# Altium schematic symbol library Motor Controller.SchLib: 22 symbols
Pins are listed as number, name and electrical type; pins without a type are passive.

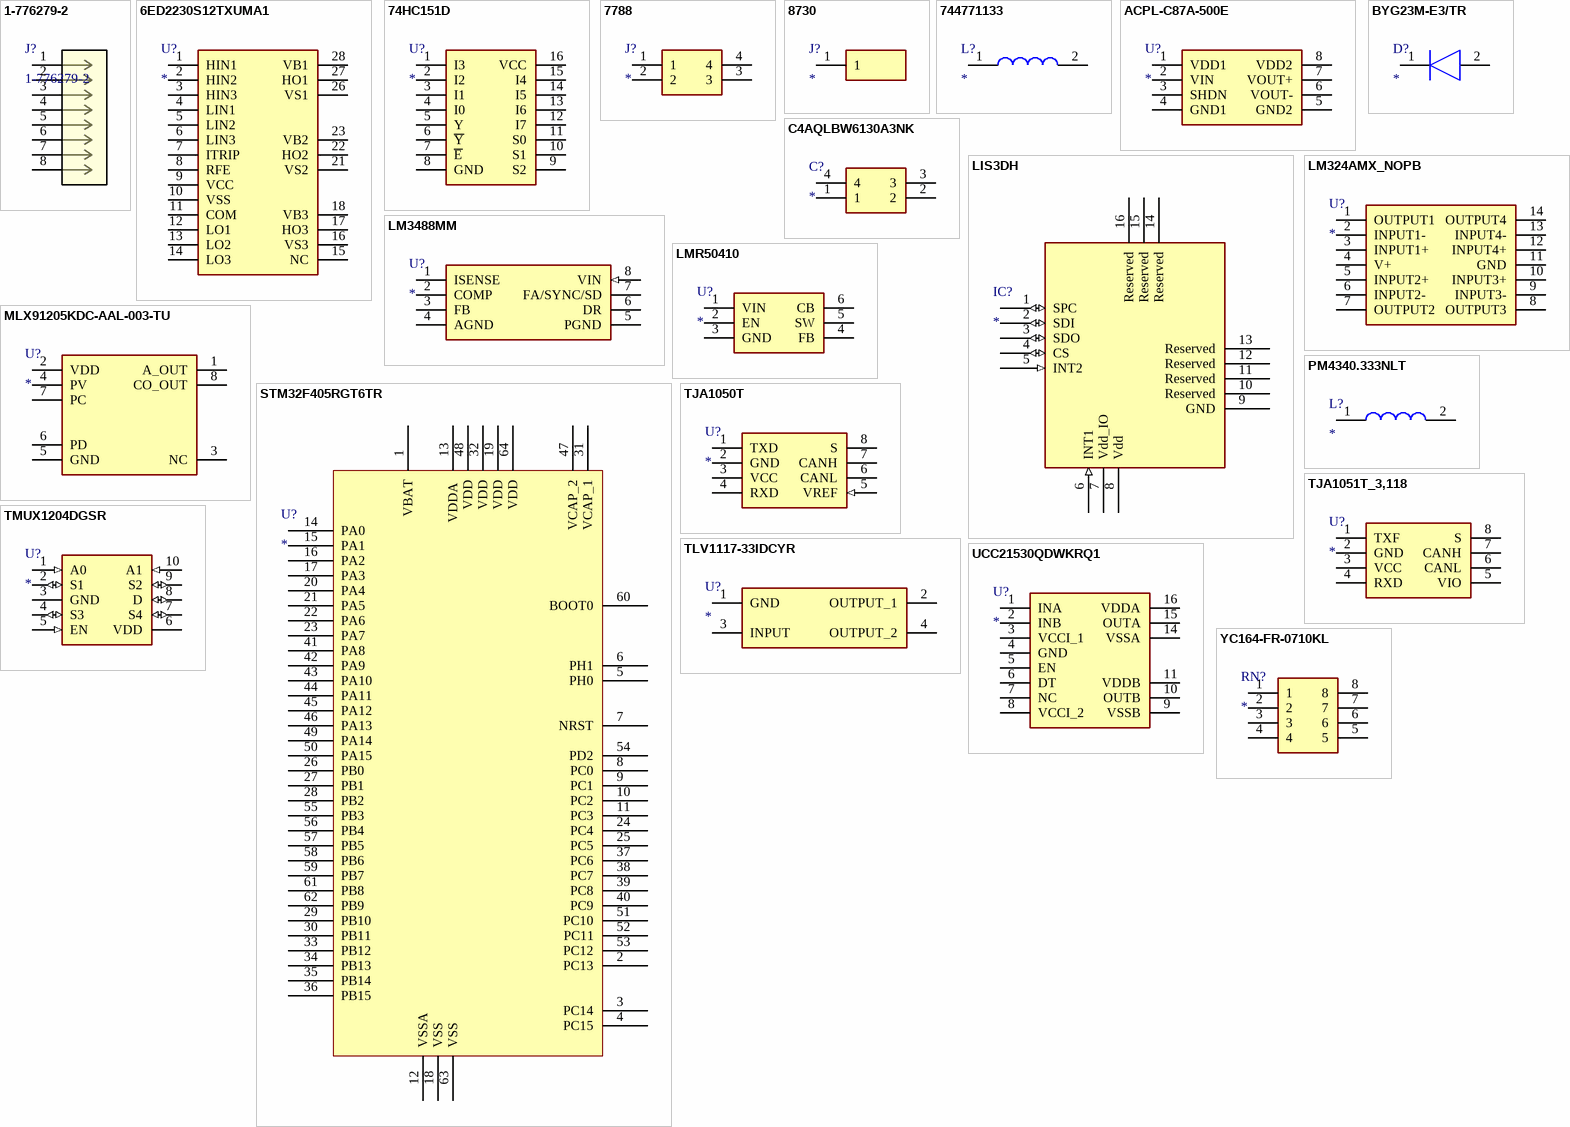
[diagram p0: symbols 1-776279-2 to YC164-FR-0710KL]

## 1-776279-2
designator J?
8 POS RIGHT ANGLE HEADER ASSY; Vendor: TE Connectivity; ROWS/CONFIG: 3; PITCH(MM): 0.157; POSITIONS: 8; Built_By: EMA_UL_Team; SourceLibrary: TE_Connectivity-2018-03-16; Copyright: Copyright (C) 2016 Accelerated Designs. All rights reserved; Manufacturer_Part_Number: 1-776279-2; TE_Part_Number: 1-776279-2; PRODUCT: -; Type: DEV; RefDes: RefDes
footprint CONN8_776279_TEC
pins: 1, 2, 3, 4, 5, 6, 7, 8

## 6ED2230S12TXUMA1
designator U?
Integrated Circuit; Manufacturer_Name: Infineon; Manufacturer_Part_Number: 6ED2230S12TXUMA1; Datasheet Link: https://www.arrow.com/en/products/6ed2230s12txuma1/infineon-technologies-ag; Height: 2.65mm; Arrow Part Number: 6ED2230S12TXUMA1; Arrow Price/Stock: https://www.arrow.com/en/products/6ed2230s12txuma1/infineon-technologies-ag; Mouser Part Number: 726-6ED2230S12TXUMA1; Mouser Price/Stock: https://www.mouser.co.uk/ProductDetail/Infineon-Technologies/6ED2230S12TXUMA1?qs=%252BEew9%252B0nqrDqONJq1%252BaRWQ%3D%3D
footprint SOIC127P1030X265-28N
pins: 1 HIN1, 2 HIN2, 3 HIN3, 4 LIN1, 5 LIN2, 6 LIN3, 7 ITRIP, 8 RFE, 9 VCC, 10 VSS, 11 COM, 12 LO1, 13 LO2, 14 LO3, 15 NC, 16 VS3, 17 HO3, 18 VB3, 21 VS2, 22 HO2, 23 VB2, 26 VS1, 27 HO1, 28 VB1

## 74HC151D
designator U?
Integrated Circuit; Manufacturer_Name: Nexperia; Manufacturer_Part_Number: 74HC151D; Datasheet Link: http://www.nxp.com/documents/data_sheet/74HC_HCT151.pdf; Height: 1.75mm; Arrow Part Number: 74HC151D; Mouser Part Number: 771-74HC151D; Mouser Price/Stock: https://www.mouser.com/Search/Refine.aspx?Keyword=771-74HC151D
footprint SOIC127P600X175-16N
pins: 1 I3, 2 I2, 3 I1, 4 I0, 5 Y, 6 ~{Y}, 7 ~{E}, 8 GND, 9 S2, 10 S1, 11 S0, 12 I7, 13 I6, 14 I5, 15 I4, 16 VCC

## 7788
designator J?
Undefined or Miscellaneous; Manufacturer_Name: Keystone Electronics; Manufacturer_Part_Number: 7788; Datasheet Link: http://keyelco.com/userAssets/file/M65p69.pdf; Height: 6.45mm; Arrow Part Number: 7788; Mouser Part Number: 534-7788; Mouser Price/Stock: https://www.mouser.co.uk/ProductDetail/Keystone-Electronics/7788?qs=zBlGwAMnvtfxCRT2qpr1FA%3D%3D
footprint 7788
pins: 1, 2, 3, 4

## 8730
designator J?
Connector; Manufacturer_Name: Keystone Electronics; Manufacturer_Part_Number: 8730; Datasheet Link: https://www.mouser.com/datasheet/2/215/730-743759.pdf; Height: 4.88mm; Arrow Part Number: 8730; Mouser Part Number: 534-8730; Mouser Price/Stock: https://www.mouser.co.uk/ProductDetail/Keystone-Electronics/8730?qs=%252B%252BPv0l39JAEHqkiHVP218w%3D%3D
footprint 8730
pins: 1

## 744771133
designator L?
Inductor; Manufacturer_Name: Wurth Elektronik; Manufacturer_Part_Number: 744771133; Arrow Part Number: 744771133; Mouser Part Number: 710-744771133; Mouser Price/Stock: https://www.mouser.com/Search/Refine.aspx?Keyword=710-744771133
footprint WE-PD_1260/1245/1280/121054
pins: 1, 2

## ACPL-C87A-500E
designator U?
Integrated Circuit; Manufacturer_Name: Avago Technologies; Manufacturer_Part_Number: ACPL-C87A-500E; Datasheet Link: https://docs.broadcom.com/docs/AV02-3563EN; Height: 3.607mm; Arrow Part Number: ACPL-C87A-500E; Mouser Part Number: 630-ACPL-C87A-500E; Mouser Price/Stock: https://www.mouser.co.uk/ProductDetail/Broadcom-Avago/ACPL-C87A-500E?qs=mhB89zxvawnihD62lh78rg%3D%3D
footprint SOIC127P1150X361-8N
pins: 1 VDD1, 2 VIN, 3 SHDN, 4 GND1, 5 GND2, 6 VOUT-, 7 VOUT+, 8 VDD2

## BYG23M-E3/TR
designator D?
Diode; Manufacturer_Name: Vishay; Manufacturer_Part_Number: BYG23M-E3/TR; Datasheet Link: https://www.vishay.com/docs/88962/byg23m.pdf; Height: 2.42mm; Arrow Part Number: BYG23M-E3/TR1N4007
footprint DIOM5327X242N
pins: 1 K, 2 A

## C4AQLBW6130A3NK
designator C?
Capacitor; Manufacturer_Name: Kemet; Manufacturer_Part_Number: C4AQLBW6130A3NK; Datasheet Link: https://api.kemet.com/component-edge/download/specsheet/C4AQLBW6130A3NK.pdf; Height: 50.3mm; Arrow Price/Stock: https://www.digikey.ca/en/products/detail/kemet/C4AQLBW6130A3NK/8345973; Mouser Part Number: C4AQLBW6130A3NK; Mouser Price/Stock: https://www.digikey.ca/en/products/detail/kemet/C4AQLBW6130A3NK/8345973; Arrow Part Number: C4AQLBW6130A3NK
footprint C4AQLBW6130A3NK
pins: 1, 2, 3, 4

## LIS3DH
designator IC?
Integrated Circuit; Manufacturer_Name: STMicroelectronics; Manufacturer_Part_Number: LIS3DH; Datasheet Link: http://www.st.com/st-web-ui/static/active/en/resource/technical/document/datasheet/CD00274221.pdf; Arrow Part Number: LIS3DH; Arrow Price/Stock: https://www.arrow.com/en/products/lis3dh/stmicroelectronics; Mouser Part Number: 511-LIS3DH; Mouser Price/Stock: https://www.mouser.co.uk/ProductDetail/STMicroelectronics/LIS3DH?qs=6la6oa3D8xzPM1xd7Ufm4A%3D%3D
footprint LGA(3X3X1.0-16L)
pins: 1 SPC (io), 2 SDI (io), 3 SDO (io), 4 CS (io), 5 INT2 (in), 6 INT1 (in), 7 Vdd_IO (power), 8 Vdd (power), 9 GND (power), 10 Reserved, 11 Reserved, 12 Reserved, 13 Reserved, 14 Reserved (power), 15 Reserved, 16 Reserved

## LM324AMX_NOPB
designator U?
Integrated Circuit; Manufacturer_Name: Texas Instruments; Manufacturer_Part_Number: LM324AMX/NOPB; Datasheet Link: http://www.ti.com/lit/ds/symlink/lm124-n.pdf; Height: 1.75mm; Arrow Part Number: LM324AMX/NOPB; Arrow Price/Stock: https://www.arrow.com/en/products/lm324amxnopb/texas-instruments; Mouser Part Number: 926-LM324AMX/NOPB; Mouser Price/Stock: https://www.mouser.co.uk/ProductDetail/Texas-Instruments/LM324AMX-NOPB?qs=X1J7HmVL2ZGoShKBIiyAoQ%3D%3D
footprint SOIC127P600X175-14N - duplicate
pins: 1 OUTPUT1, 2 INPUT1-, 3 INPUT1+, 4 V+, 5 INPUT2+, 6 INPUT2-, 7 OUTPUT2, 8 OUTPUT3, 9 INPUT3-, 10 INPUT3+, 11 GND, 12 INPUT4+, 13 INPUT4-, 14 OUTPUT4

## LM3488MM
designator U?
Integrated Circuit; Manufacturer_Name: Texas Instruments; Manufacturer_Part_Number: LM3488MM; Datasheet Link: http://www.ti.com/lit/ds/symlink/lm3488.pdf; Height: 1.1mm; Arrow Part Number: LM3488MM; Arrow Price/Stock: https://www.arrow.com/en/products/lm3488mm/texas-instruments; Mouser Part Number: 926-LM3488MM; Mouser Price/Stock: https://www.mouser.co.uk/ProductDetail/Texas-Instruments/LM3488MM?qs=X1J7HmVL2ZF99wiIrTysxw%3D%3D
footprint SOP65P490X110-8N
pins: 1 ISENSE, 2 COMP, 3 FB, 4 AGND (power), 5 PGND (power), 6 DR, 7 FA/SYNC/SD, 8 VIN (in)

## LMR50410
designator U?
Integrated Circuit; Manufacturer_Name: Texas Instruments; Manufacturer_Part_Number: LMR50410; Datasheet Link: https://www.ti.com/lit/ds/symlink/lmr50410.pdf?ts=1598511476132&ref_url=https%253A%252F%252Fwww.ti.com%252Fproduct%252FLMR50410; Height: 1.45mm; Arrow Part Number: LMR50410
footprint SOT95P280X145-6N
pins: 1 VIN, 2 EN, 3 GND, 4 FB, 5 SW, 6 CB

## MLX91205KDC-AAL-003-TU
designator U?
Integrated Circuit; Manufacturer_Name: Melexis; Manufacturer_Part_Number: MLX91205KDC-AAL-003-TU; Datasheet Link: http://www.mouser.com/datasheet/2/734/MLX91205-Datasheet-Melexis-953301.pdf; Height: 1.73mm; Arrow Part Number: MLX91205KDC-AAL-003-TU; Mouser Part Number: 482-91205KDCAAL003TU; Mouser Price/Stock: https://www.mouser.com/Search/Refine.aspx?Keyword=482-91205KDCAAL003TU
footprint SOIC127P602X173-8N
pins: 1 A_OUT, 2 VDD, 3 NC, 4 PV, 5 GND, 6 PD, 7 PC, 8 CO_OUT

## PM4340.333NLT
designator L?
Inductor; Manufacturer_Name: Pulse; Manufacturer_Part_Number: PM4340.333NLT; Datasheet Link: https://products.pulseelex.com/files/product_files/P767.pdf; Height: 2mm; Arrow Part Number: PM4340.333NLT
footprint PM4340682NLT
pins: 1, 2

## STM32F405RGT6TR
designator U?
footprint STM32F405RGT6TR
pins: 1 VBAT (power), 2 PC13, 3 PC14, 4 PC15, 5 PH0, 6 PH1, 7 NRST, 8 PC0, 9 PC1, 10 PC2, 11 PC3, 12 VSSA (power), 13 VDDA  (power), 14 PA0, 15 PA1, 16 PA2, 17 PA3, 18 VSS (power), 19 VDD (power), 20 PA4, 21 PA5, 22 PA6, 23 PA7, 24 PC4, 25 PC5, 26 PB0, 27 PB1, 28 PB2, 29 PB10, 30 PB11, 31 VCAP_1 (power), 32 VDD (power), 33 PB12, 34 PB13, 35 PB14, 36 PB15, 37 PC6, 38 PC7, 39 PC8, 40 PC9, 41 PA8, 42 PA9, 43 PA10, 44 PA11, 45 PA12, 46 PA13, 47 VCAP_2 (power), 48 VDD (power), 49 PA14, 50 PA15, 51 PC10, 52 PC11, 53 PC12, 54 PD2, 55 PB3, 56 PB4, 57 PB5, 58 PB6, 59 PB7, 60 BOOT0, 61 PB8, 62 PB9, 63 VSS (power), 64 VDD (power)

## TJA1050T
designator U?
Integrated Circuit; Manufacturer_Name: Nexperia; Manufacturer_Part_Number: TJA1050T; Datasheet Link: http://docs-emea.rs-online.com/webdocs/0425/0900766b80425301.pdf; Height: 1.75mm; Arrow Part Number: TJA1050T; Mouser Part Number: N/A; Mouser Price/Stock: https://www.mouser.com/Search/Refine.aspx?Keyword=N%2FA
footprint SOIC127P600X175-8N
pins: 1 TXD, 2 GND (power), 3 VCC (power), 4 RXD, 5 VREF (in), 6 CANL, 7 CANH, 8 S

## TJA1051T_3,118
designator U?
Integrated Circuit; Manufacturer_Name: NXP; Manufacturer_Part_Number: TJA1051T/3,118; Datasheet Link: http://www.nxp.com/docs/en/data-sheet/TJA1051.pdf; Height: 1.75mm; Arrow Part Number: TJA1051T/3,118; Arrow Price/Stock: https://www.arrow.com/en/products/tja1051t3118/nxp-semiconductors; Mouser Part Number: 771-TJA1051T3118; Mouser Price/Stock: https://www.mouser.co.uk/ProductDetail/NXP-Semiconductors/TJA1051T-3118?qs=O%2F7ihdSJpebv1PFlp05wnQ%3D%3D
footprint SOIC127P600X175-8N
pins: 1 TXF, 2 GND, 3 VCC, 4 RXD, 5 VIO, 6 CANL, 7 CANH, 8 S

## TLV1117-33IDCYR
designator U?
Integrated Circuit; Manufacturer_Name: Texas Instruments; Manufacturer_Part_Number: TLV1117-33IDCYR; Datasheet Link: http://www.ti.com/lit/ds/symlink/tlv1117.pdf?HQS=TI-null-null-digikeymode-df-pf-null-wwe&ts=1590668900314; Height: 1.8mm; Arrow Part Number: TLV1117-33IDCYR; Arrow Price/Stock: https://www.arrow.com/en/products/tlv1117-33idcyr/texas-instruments; Mouser Part Number: 595-TLV1117-33IDCYR; Mouser Price/Stock: https://www.mouser.co.uk/ProductDetail/Texas-Instruments/TLV1117-33IDCYR?qs=p6lVfQR1GSoKgp3tAXcW5w%3D%3D
footprint SOT230P700X180-4N
pins: 1 GND, 2 OUTPUT_1, 3 INPUT, 4 OUTPUT_2

## TMUX1204DGSR
designator U?
Integrated Circuit; Manufacturer_Name: Texas Instruments; Manufacturer_Part_Number: TMUX1204DGSR; Datasheet Link: http://www.ti.com/lit/gpn/TMUX1204; Height: 1.1mm; Arrow Part Number: TMUX1204DGSR; Arrow Price/Stock: https://www.arrow.com/en/products/tmux1204dgsr/texas-instruments; Mouser Part Number: 595-TMUX1204DGSR; Mouser Price/Stock: https://www.mouser.co.uk/ProductDetail/Texas-Instruments/TMUX1204DGSR?qs=EBDBlbfErPw42Q0DdvAwUg%3D%3D
footprint SOP50P490X110-10N
pins: 1 A0 (in), 2 S1 (io), 3 GND (power), 4 S3 (io), 5 EN (in), 6 VDD (power), 7 S4 (io), 8 D (io), 9 S2 (io), 10 A1 (in)

## UCC21530QDWKRQ1
designator U?
Integrated Circuit; Manufacturer_Name: Texas Instruments; Manufacturer_Part_Number: UCC21530QDWKRQ1; Datasheet Link: http://www.ti.com/lit/gpn/UCC21530-Q1; Height: 2.65mm; Arrow Part Number: UCC21530QDWKRQ1; Arrow Price/Stock: https://www.arrow.com/en/products/ucc21530qdwkrq1/texas-instruments; Mouser Part Number: 595-UCC21530QDWKRQ1; Mouser Price/Stock: https://www.mouser.co.uk/ProductDetail/Texas-Instruments/UCC21530QDWKRQ1?qs=9r4v7xj2LnnGdaOa0foA5Q%3D%3D
footprint UCC21530QDWKRQ1 - duplicate
pins: 1 INA, 2 INB, 3 VCCI_1, 4 GND, 5 EN, 6 DT, 7 NC, 8 VCCI_2, 9 VSSB, 10 OUTB, 11 VDDB, 14 VSSA, 15 OUTA, 16 VDDA

## YC164-FR-0710KL
designator RN?
Resistor Network; Manufacturer_Name: YAGEO (PHYCOMP); Manufacturer_Part_Number: YC164-FR-0710KL; Datasheet Link: https://www.mouser.com/datasheet/2/447/PYu-YC_TC_group_51_RoHS_L_7-1313905.pdf; Height: 0mm; Arrow Part Number: YC164-FR-0710KL; Mouser Part Number: 603-YC164-FR-0710KL; Mouser Price/Stock: https://www.mouser.co.uk/ProductDetail/Yageo/YC164-FR-0710KL?qs=8cPjvKtxWv4rLfyjGsoQQw%3D%3D
footprint YC164JR07220RL
pins: 1, 2, 3, 4, 5, 6, 7, 8